# EAGLE library part M50-3101042 (library Jack-connectors)
Harwin SMT 10 pin female, 1.27 mm pitch
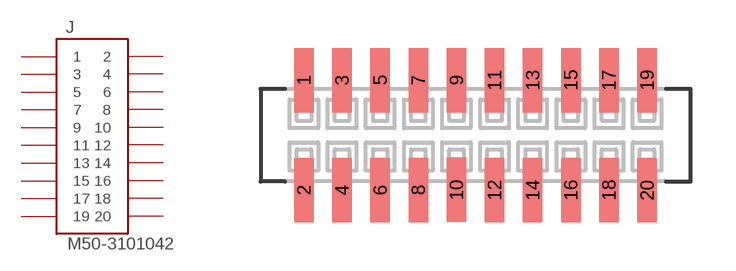
[diagram p26: symbol with the pads of M50-3101042; footprint M50-3101042]

Designator prefix J

## M50-3101042 (DESCRIPTION: Harwin SMT 10 pin female, 1.27 mm pitch; PACK: M50-3101042)  [M50-3101042]
1  1  pas
2  2  pas
3  3  pas
4  4  pas
5  5  pas
6  6  pas
7  7  pas
8  8  pas
9  9  pas
10  10  pas
11  11  pas
12  12  pas
13  13  pas
14  14  pas
15  15  pas
16  16  pas
17  17  pas
18  18  pas
19  19  pas
20  20  pas

## Footprint M50-3101042 (pad centres in mm)
smd 0.65 x 2.15: 1 -5.715,1.835; 2 -5.715,-1.835; 3 -4.445,1.835; 4 -4.445,-1.835; 5 -3.175,1.835; 6 -3.175,-1.835; 7 -1.905,1.835; 8 -1.905,-1.835; 9 -0.635,1.835; 10 -0.635,-1.825; 11 0.635,1.835; 12 0.635,-1.835; 13 1.905,1.835; 14 1.905,-1.835; 15 3.175,1.835; 16 3.175,-1.835; 17 4.445,1.835; 18 4.445,-1.835; 19 5.715,1.835; 20 5.715,-1.835